# Altium footprint library PCB1.PcbLib: 24 footprints (part 2 of 2)
Each footprint in its own frame and in the unit in brackets; x right, y up, seen from the top. Pads: shape width x height; smd on the part's side, far side on the other; paste and mask are expansions set on the pad; w line width, h text height; cw(c..) or ccw(c..) is an arc to the next point about the centre after c.
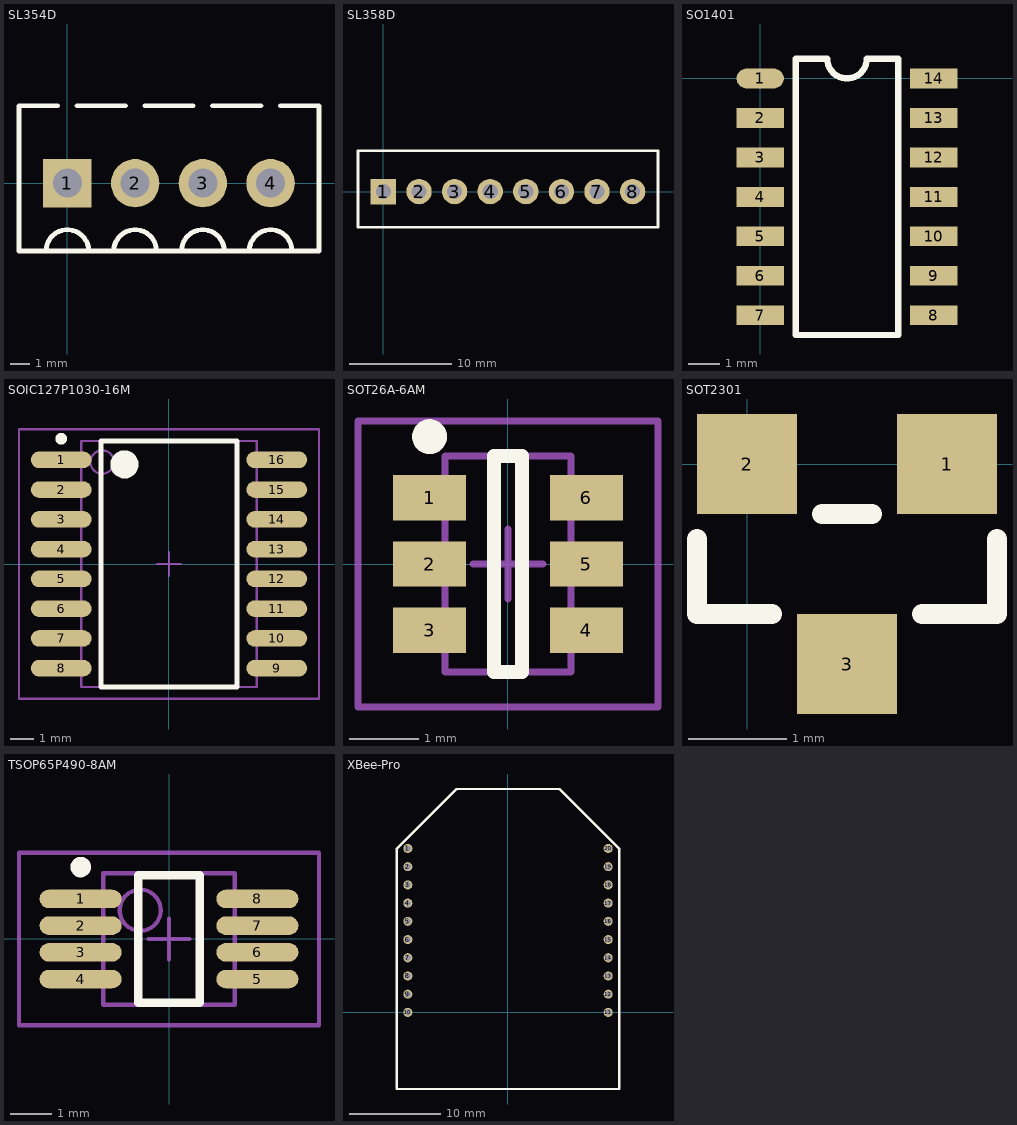
[diagram p1: the footprints below, top view; thin cyan lines are the x and y axes]

## SL354D [mm]
height 11.1
pads (4):
  rect 2.5x2.5 hole 1.5: 1(0,0)
  round 2.5 hole 1.5: 2(3.5,0) 3(7,0) 4(10.5,0)
Top Overlay:
  lines w0.25: -2.5,4 -0.5,4 ; 0.5,4 3,4 ; 4,4 6.5,4 ; 7.5,4 10,4 ; 11,4 13,4
  lines w0.254: -2.5,4 -2.5,-3.5 13,-3.5 13,4 ; -1.1,-3.5 cw(c0,-3.5) 1.1,-3.5 ; 2.4,-3.5 cw(c3.5,-3.5) 4.6,-3.5 ; 5.9,-3.5 cw(c7,-3.5) 8.1,-3.5 ; 9.4,-3.5 cw(c10.5,-3.5) 11.6,-3.5

## SL358D [mm]
height 1.1
pads (8):
  rect 2.5x2.5 hole 1.5: 1(0,0)
  round 2.5 hole 1.5: 2(3.5,0) 3(7,0) 4(10.5,0) 5(14,0) 6(17.5,0) 7(21,0) 8(24.5,0)
Top Overlay:
  lines w0.254: -2.5,-3.5 27,-3.5 27,4 -2.5,4 -2.5,-3.5

## SO1401 [mil]
height 43.31
pads (14):
  oval 60x25 smd: 1(0,0)
  rect 60x25 smd: 2(0,-50) 3(0,-100) 4(0,-150) 5(0,-200) 6(0,-250) 7(0,-300) 8(220,-300) 9(220,-250) 10(220,-200) 11(220,-150) 12(220,-100) 13(220,-50) 14(220,0)
Top Overlay:
  lines w7.87: 85,25 45,25 45,20 45,-325 175,-325 175,25 155,25 135,25
  lines w8: 85,25 ccw(c110,25) 135,25

## SOIC127P1030-16M [mm] "SOIC, 16-Leads, Body 10.3x7.5mm, Pitch 1.27mm, IPC Low Density"
height 2.65
pads (16):
  oval 2.6x0.7 smd: 1(-4.6,4.445) 2(-4.6,3.175) 3(-4.6,1.905) 4(-4.6,0.635) 5(-4.6,-0.635) 6(-4.6,-1.905) 7(-4.6,-3.175) 8(-4.6,-4.445) 9(4.6,-4.445) 10(4.6,-3.175) 11(4.6,-1.905) 12(4.6,-0.635) 13(4.6,0.635) 14(4.6,1.905) 15(4.6,3.175) 16(4.6,4.445)
Top Overlay:
  circle w0.25: c-4.6,5.345 r0.125
  circle w0.6: c-1.9,4.25 r0.3
  lines w0.2: -2.9,-5.25 -2.9,5.25 2.9,5.25 2.9,-5.25 -2.9,-5.25
Mechanical 13:
  circle w0.1: c-2.85,4.35 r0.5
  lines w0.1: -3.75,-5.25 -3.75,5.25 3.75,5.25 3.75,-5.25 -3.75,-5.25
Mechanical 15:
  lines w0.1: -0.5,0 0.5,0 ; 0,-0.5 0,0.5 ; -6.4,-5.75 -6.4,5.75 6.4,5.75 6.4,-5.75 -6.4,-5.75
3D body: height 2.65, standoff 0, extent -3.75,-5.25 3.75,5.25

## SOT26A-6AM [mm]
height 1.1
pads (6):
  rect 1.05x0.65 smd: 1(-1.125,0.95) 2(-1.125,0) 3(-1.125,-0.95) 4(1.125,-0.95) 5(1.125,0) 6(1.125,0.95)
Top Overlay:
  circle w0.25: c-1.125,1.825 r0.125
  lines w0.2: -0.2,-1.55 -0.2,1.55 0.2,1.55 0.2,-1.55 -0.2,-1.55
Mechanical 13:
  lines w0.1: -0.9,-1.55 0.9,-1.55 0.9,1.55 -0.9,1.55 -0.9,-1.55
Mechanical 15:
  lines w0.1: -0.5,0 0.5,0 ; 0,-0.5 0,0.5 ; -2.15,-2.05 2.15,-2.05 2.15,2.05 -2.15,2.05 -2.15,-2.05
3D body: height 0, standoff 0, extent -0.9,-1.55 0.9,1.55

## SOT2301 [mil]
height 43.31
pads (3):
  rect 40x40 smd: 1(80,0) 2(0,0) 3(40,-80)
Top Overlay:
  lines w7.87: -20,-30 -20,-60 10,-60 ; 30,-20 50,-20 ; 70,-60 100,-60 100,-30

## TSOP65P490-8AM [mm] "TSOP, 8-Leads, Body 3x3mm, Pitch 0.65mm, IPC Low Density"
height 1.1
pads (8):
  oval 2x0.45 smd: 1(-2.15,0.975) 2(-2.15,0.325) 3(-2.15,-0.325) 4(-2.15,-0.975) 5(2.15,-0.975) 6(2.15,-0.325) 7(2.15,0.325) 8(2.15,0.975)
Top Overlay:
  circle w0.25: c-2.15,1.75 r0.125
  lines w0.2: -0.75,-1.55 -0.75,1.55 0.75,1.55 0.75,-1.55 -0.75,-1.55
Mechanical 13:
  circle w0.1: c-0.7,0.7 r0.5
  lines w0.1: -1.6,-1.6 -1.6,1.6 1.6,1.6 1.6,-1.6 -1.6,-1.6
Mechanical 15:
  lines w0.1: -0.5,0 0.5,0 ; 0,-0.5 0,0.5 ; -3.65,-2.1 -3.65,2.1 3.65,2.1 3.65,-2.1 -3.65,-2.1
3D body: height 1.1, standoff 0, extent -1.6,-1.6 1.6,1.6

## XBee-Pro [mm]
height 1.1
pads (20):
  round 1 hole 0.7: 1(-11,18) 2(-11,16) 3(-11,14) 4(-11,12) 5(-11,10) 6(-11,8) 7(-11,6) 8(-11,4) 9(-11,2) 10(-11,0) 11(11,0) 12(11,2) 13(11,4) 14(11,6) 15(11,8) 16(11,10) 17(11,12) 18(11,14) 19(11,16) 20(11,18)
Top Overlay:
  lines w0.254: -12.2,-8.41 -12.2,18 -5.67,24.53 -4.6,24.53 4.6,24.53 5.67,24.53 12.2,18 12.2,-8.41 -12.2,-8.41